# EAGLE library part DAC8560 (library TI)
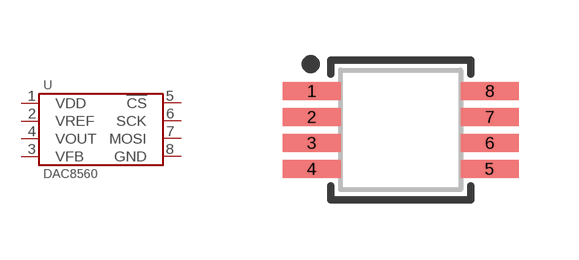
[diagram p29: symbol with the pads of MSOP-8; footprint MSOP-8]

Designator prefix U

## DAC8560IDDGKT  [MSOP-8]
1  VDD
2  VREF
3  VFB
4  VOUT
5  !CS
6  SCK
7  MOSI
8  GND

## Footprint MSOP-8 (pad centres in mm)
smd 1.45 x 0.45: 1 -2.225,0.975; 2 -2.225,0.325; 3 -2.225,-0.325; 4 -2.225,-0.975; 5 2.225,-0.975; 6 2.225,-0.325; 7 2.225,0.325; 8 2.225,0.975